# Altium footprint library Custom_Slit_Lamp.PcbLib: 2 footprints
Each footprint in its own frame and in the unit in brackets; x right, y up, seen from the top. Pads: shape width x height; smd on the part's side, far side on the other; paste and mask are expansions set on the pad; w line width, h text height; cw(c..) or ccw(c..) is an arc to the next point about the centre after c.
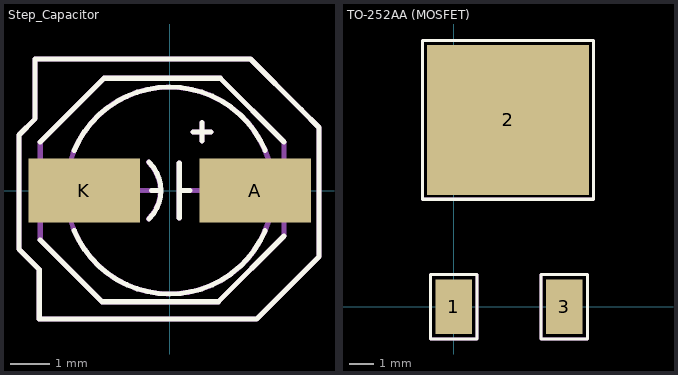
[diagram p0: the footprints below, top view; thin cyan lines are the x and y axes]

## Step_Capacitor [mm]
pads (2):
  rect 2.8x1.6 smd: A(2.15,0) K(-2.15,0)
Top Overlay:
  lines w0.127: -3.251,-1.245 -1.702,-2.794 1.219,-2.794 2.87,-1.143 ; -3.251,1.219 -1.651,2.819 1.27,2.819 2.87,1.219 ; -2.398,-1.006 ccw(c0,0) 2.396,-1.011 ; -2.398,1.006 cw(c0,0) 2.396,1.011 ; -0.517,-0.711 ccw(c-1.229,0) -0.517,0.711 ; -0.457,0 -0.4,0 -0.286,0 -0.229,0 ; 0.24,-0.686 0.24,0 0.24,0.686 ; 0.279,0 0.508,0 ; 0.584,1.473 1.041,1.473 ; 0.813,1.245 0.813,1.702 ; -3.785,-1.473 -3.277,-1.981 -3.277,-3.226 -2.464,-3.226 -1.676,-3.226 2.184,-3.226 3.75,-1.66 3.75,1.584 3.305,2.029 2.032,3.302 -3.378,3.302 -3.378,1.803 -3.785,1.397 -3.785,-1.473
Mechanical 1:
  circle w0.127: c0,0 r2.6
  lines w0.127: -1.6,0 -0.254,0 ; -0.529,-0.711 ccw(c-1.24,0) -0.529,0.711 ; 0.24,-0.686 0.24,0 0.24,0.686 ; 0.33,0 1.676,0 ; 0.584,1.473 1.041,1.473 ; 0.813,1.245 0.813,1.702 ; -3.785,-1.473 -3.785,1.397 -3.378,1.803 -3.378,3.302 2.032,3.302 3.305,2.029 3.75,1.584 3.75,-1.66 2.184,-3.226 -1.676,-3.226 -2.464,-3.226 -3.277,-3.226 -3.277,-1.981 -3.785,-1.473 ; -3.251,-1.245 -1.702,-2.794 1.219,-2.794 2.87,-1.143 2.87,1.219 1.27,2.819 -1.651,2.819 -3.251,1.219 -3.251,-1.245
  text "'.Designator'" at 4.089,3.073 h0.5
3D body "User Library-capacitor size C.STEP": height 5.41, standoff -0.01, extent -2.95,-2.65 2.95,2.65

## TO-252AA (MOSFET) [mm]
pads (3):
  rect 1.524x2.28 smd: 1(0,0) 3(4.6,0)
  rect 6.74x6.23 smd: 2(2.261,7.772)
Top Overlay:
  lines w0.127: -1.295,4.47 -1.295,11.074 5.817,11.074 5.817,4.47 -1.295,4.47 ; -0.965,-1.346 -0.965,1.346 0.965,1.346 0.965,-1.346 -0.965,-1.346 ; 3.632,-1.346 5.563,-1.346 5.563,1.346 3.632,1.346 3.632,-1.346
Mechanical 1:
  lines w0.127: -1.295,4.47 5.817,4.47 5.817,11.074 -1.295,11.074 -1.295,4.47 ; -0.965,-1.346 0.965,-1.346 0.965,1.346 -0.965,1.346 -0.965,-1.346 ; 3.632,-1.346 3.632,1.346 5.563,1.346 5.563,-1.346 3.632,-1.346
3D body "User Library-DPAK_TO-252AA (Power MOSFET).step": height 2.38, standoff -0.02, extent -1.101,-0.18 5.633,9.92